# EAGLE library part ESP8266 (library Webmaster442)
PIN HEADER
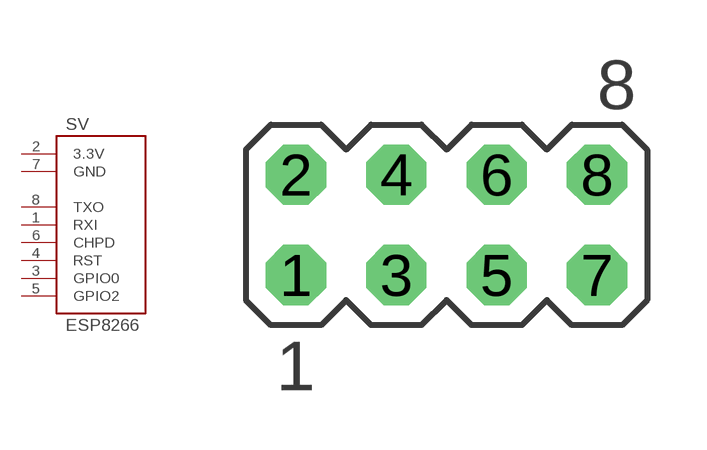
[diagram p23: symbol with the pads of MA04-2; footprint MA04-2]

Designator prefix SV

## ESP8266 (OC_FARNELL: unknown; OC_NEWARK: unknown)  [MA04-2]
1  RXI
2  3.3V
3  GPIO0
4  RST
5  GPIO2
6  CHPD
7  GND
8  TXO

## Footprint MA04-2 (pad centres in mm)
PIN HEADER
drill 1.016 octagon: 1 -3.81,-1.27; 2 -3.81,1.27; 3 -1.27,-1.27; 4 -1.27,1.27; 5 1.27,-1.27; 6 1.27,1.27; 7 3.81,-1.27; 8 3.81,1.27